# EAGLE library part 74HC132D (library Vertrangingsschema library)
74HC132D, Logic Gate Quad 2 Input NAND, HC, 5.2mA 2 to 6V 14-Pin SOIC Source: Datasheet <http://www.nxp.com/documents/data_sheet/74HC_HCT132.pdf>
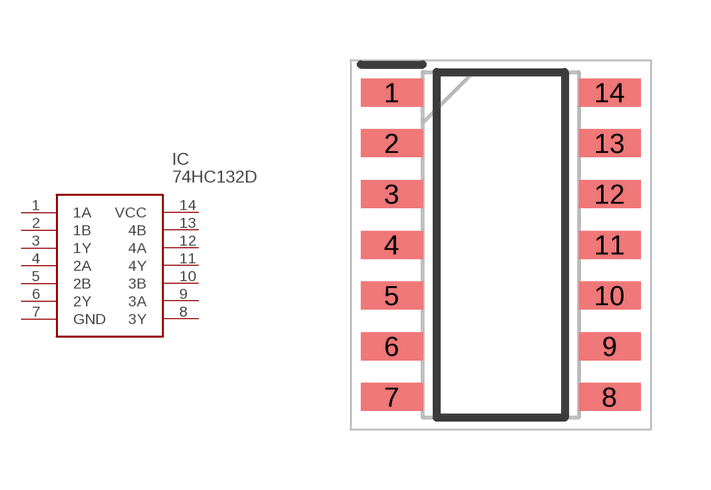
[diagram p0: symbol with the pads of SOIC127P600X175-14N; footprint SOIC127P600X175-14N]

Designator prefix IC

## 74HC132D (ARROW_PART_NUMBER: 74HC132D; ARROW_PRICE-STOCK: http://uk.rs-online.com/web/p/products/4367408; DESCRIPTION: 74HC132D, Logic Gate Quad 2 Input NAND, HC, 5.2mA 2 to 6V 14-Pin SOIC; HEIGHT: 1.75mm; MANUFACTURER_NAME: Nexperia; MANUFACTURER_PART_NUMBER: 74HC132D; RS_PART_NUMBER: 4367408; RS_PRICE-STOCK: http://uk.rs-online.com/web/p/products/4367408)  [SOIC127P600X175-14N]
1  1A
2  1B
3  1Y
4  2A
5  2B
6  2Y
7  GND  pwr
8  3Y
9  3A
10  3B
11  4Y
12  4A
13  4B
14  VCC  pwr

## Footprint SOIC127P600X175-14N (pad centres in mm)
SOT 108-1 (SO14)
smd 1.55 x 0.7: 1 -2.725,3.81; 2 -2.725,2.54; 3 -2.725,1.27; 4 -2.725,0; 5 -2.725,-1.27; 6 -2.725,-2.54; 7 -2.725,-3.81; 8 2.725,-3.81; 9 2.725,-2.54; 10 2.725,-1.27; 11 2.725,0; 12 2.725,1.27; 13 2.725,2.54; 14 2.725,3.81